# Altium schematic symbol library CD4006_K176IR10.SchLib: 1 symbol
Pins are listed as number, name and electrical type; pins without a type are passive.

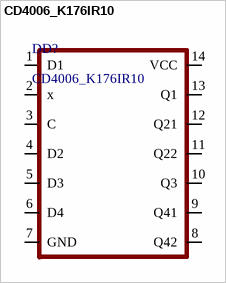
[diagram p0: symbol CD4006_K176IR10]

## CD4006_K176IR10
designator DD?
footprint DIP14
pins: 1 D1, 2 x, 3 C, 4 D2, 5 D3, 6 D4, 7 GND, 8 Q42, 9 Q41, 10 Q3, 11 Q22, 12 Q21, 13 Q1, 14 VCC